# EAGLE library part LM2904N (library ST Microelectronics)
operational amplifier
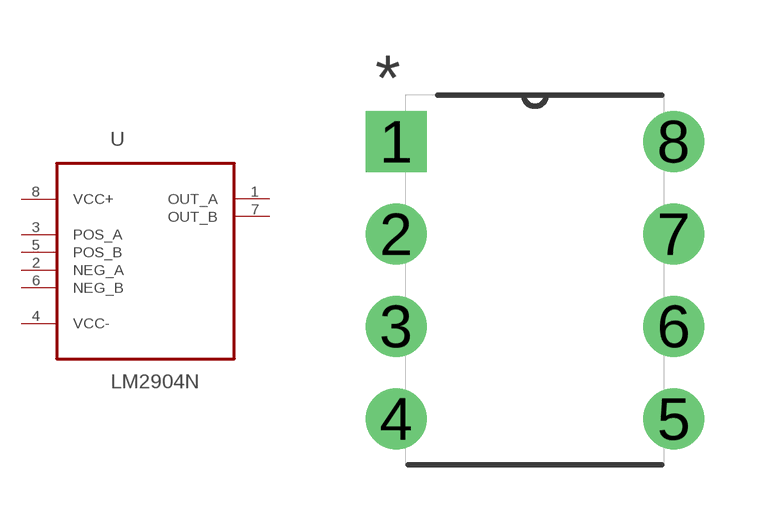
[diagram p103: symbol with the pads of DIP254P762X533-8; footprint DIP254P762X533-8]

Designator prefix U

## LM2904N (MPN: LM2904N; OC_FARNELL: 9486879; OC_NEWARK: 89K0670; PACKAGE: DIP; SUPPLIER: STMICROELECTRONICS)  [DIP254P762X533-8]
1  OUT_A  out
2  NEG_A  in
3  POS_A  in
4  VCC-  pwr
5  POS_B  in
6  NEG_B  in
7  OUT_B  out
8  VCC+  pwr

## Footprint DIP254P762X533-8 (pad centres in mm)
drill 1.118 square: 1 -7.62,7.62
drill 1.118: 2 -7.62,5.08; 3 -7.62,2.54; 4 -7.62,0; 5 0,0; 6 0,2.54; 7 0,5.08; 8 0,7.62